# Altium schematic symbol library TBP01R1-508-02BE.SchLib: 1 symbol
Pins are listed as number, name and electrical type; pins without a type are passive.

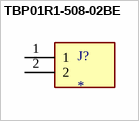
[diagram p0: symbol TBP01R1-508-02BE]

## TBP01R1-508-02BE
designator J?
2~24 Poles, Pluggable, Receptacle, Horizontal, 5.08 Pitch, Terminal Block Connector; MF: Same Sky; MP: TBP01R1-508-02BE; SnapEDA_Link: https://www.snapeda.com/parts/TBP01R1-508-02BE/Same+Sky/view-part/?ref=snap; Package: None; Value: *; Check_prices: https://www.snapeda.com/parts/TBP01R1-508-02BE/Same+Sky/view-part/?ref=eda
footprint CUI_TBP01R1-508-02BE
pins: 1, 2